# Altium schematic symbol library droneLib.SchLib: 8 symbols
Pins are listed as number, name and electrical type; pins without a type are passive.

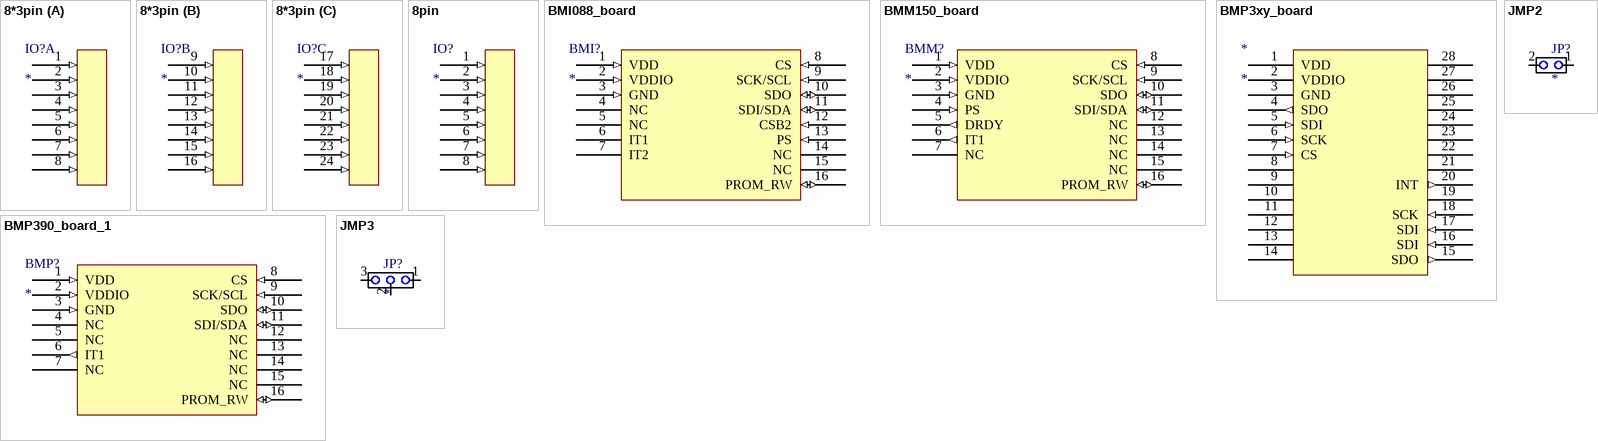
[diagram p0: symbols 8*3pin to JMP3]

## 8*3pin
designator IO?
footprint PINS 8x3
part A pins: 1 (in), 2 (in), 3 (in), 4 (in), 5 (in), 6 (in), 7 (in), 8 (in)
part B pins: 9 (in), 10 (in), 11 (in), 12 (in), 13 (in), 14 (in), 15 (in), 16 (in)
part C pins: 17 (in), 18 (in), 19 (in), 20 (in), 21 (in), 22 (in), 23 (in), 24 (in)

## 8pin
designator IO?
footprint PINS 8x1
pins: 1 (in), 2 (in), 3 (in), 4 (in), 5 (in), 6 (in), 7 (in), 8 (in)

## BMI088_board
designator BMI?
footprint DIP7-9
pins: 1 VDD (in), 2 VDDIO (in), 3 GND (in), 4 NC (hiz), 5 NC (hiz), 6 IT1 (oc), 7 IT2 (oc), 8 CS (in), 9 SCK/SCL (in), 10 SDO (io), 11 SDI/SDA (io), 12 CSB2 (in), 13 PS (in), 14 NC (hiz), 15 NC (hiz), 16 PROM_RW (io)

## BMM150_board
designator BMM?
footprint DIP7-9
pins: 1 VDD (in), 2 VDDIO (in), 3 GND (in), 4 PS (in), 5 DRDY (out), 6 IT1 (out), 7 NC (hiz), 8 CS (in), 9 SCK/SCL (in), 10 SDO (io), 11 SDI/SDA (io), 12 NC (hiz), 13 NC (hiz), 14 NC (hiz), 15 NC (hiz), 16 PROM_RW (io)

## BMP3xy_board
designator *
footprint DIP28
pins: 1 VDD (power), 2 VDDIO (power), 3 GND (power), 4 SDO (out), 5 SDI (in), 6 SCK (in), 7 CS (in), 8 (hiz), 9 (hiz), 10 (hiz), 11 (hiz), 12 (hiz), 13 (hiz), 14 (hiz), 15 SDO (out), 16 SDI (in), 17 SDI (in), 18 SCK (in), 19 (hiz), 20 INT (out), 21 (hiz), 22 (hiz), 23 (hiz), 24 (hiz), 25 (hiz), 26 (hiz), 27 (hiz), 28 (hiz)

## BMP390_board_1
designator BMP?
footprint DIP7-9
pins: 1 VDD (in), 2 VDDIO (in), 3 GND (in), 4 NC (hiz), 5 NC (hiz), 6 IT1 (out), 7 NC (hiz), 8 CS (in), 9 SCK/SCL (in), 10 SDO (io), 11 SDI/SDA (io), 12 NC (hiz), 13 NC (hiz), 14 NC (hiz), 15 NC (hiz), 16 PROM_RW (io)

## JMP2
designator JP?
footprint JMP2
pins: 1, 2

## JMP3
designator JP?
footprint JMP3
pins: 1, 2, 3